# Altium footprint library PCB - LEADLESS - SON - TI VSON-6 DRV.PCBLIB: 1 footprints
Each footprint in its own frame and in the unit in brackets; x right, y up, seen from the top. Pads: shape width x height; smd on the part's side, far side on the other; paste and mask are expansions set on the pad; w line width, h text height; cw(c..) or ccw(c..) is an arc to the next point about the centre after c.
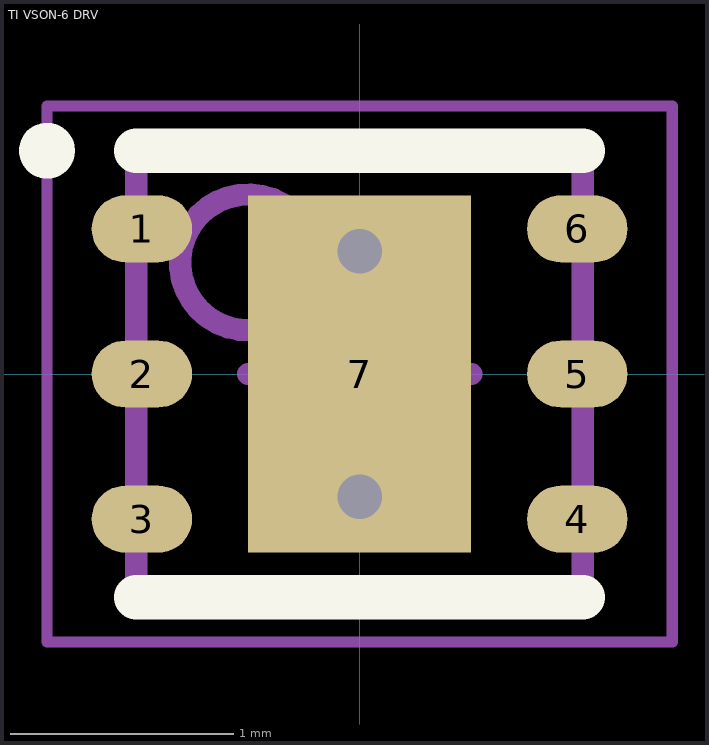
[diagram p0: the footprint, top view; thin cyan lines are the x and y axes]

## TI VSON-6 DRV [mm] "SON, 6-Leads, Body 2.00x2.00mm, Pitch 0.65mm, Thermal Pad 3.00x2.34mm, IPC Medium Density"
height 0.8
pads (7):
  oval 0.45x0.3 smd mask+0.07: 1(-0.975,0.65) 2(-0.975,0) 3(-0.975,-0.65) 4(0.975,-0.65) 5(0.975,0) 6(0.975,0.65)
  rect 1x1.6 smd paste-1.17 mask+0.07: 7(0,0)
via 0,-0.55 diameter 0.45 hole 0.2
via 0,0.55 diameter 0.45 hole 0.2
Top Overlay:
  circle w0.15: c-1.4,1 r0.05
  lines w0.2: -1,-1 1,-1 ; -1,1 1,1
Top Paste:
  rectangle: -0.5,0.1 0.5,0.8
  rectangle: -0.5,-0.8 0.5,-0.1
Mechanical 13:
  circle w0.1: c-0.5,0.5 r0.304
  lines w0.1: -1,-1 1,-1 1,1 -1,1 -1,-1
Mechanical 15:
  lines w0.05: -1.4,-1.2 -1.4,1.2 1.4,1.2 1.4,-1.2 -1.4,-1.2
  lines w0.1: -0.5,0 0.5,0 ; 0,-0.5 0,0.5
3D body ".STEP": height 0.8, standoff 0, extent -1.05,-1 1.05,1